# EAGLE library part FAN5404_ (library Chips)
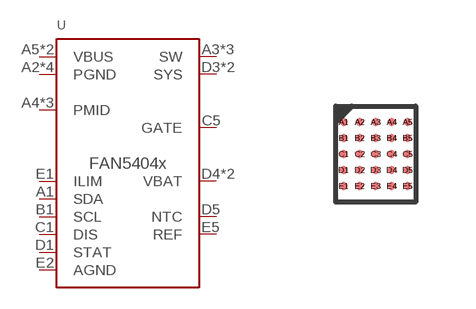
[diagram p22: symbol with the pads of BGA_5X5_0.4MM; footprint BGA_5X5_0.4MM]

Designator prefix -

## FAN5404_BGA  [BGA_5X5_0.4MM]
A1  SDA
A2  PGND
A3  SW
A4  PMID
A5  VBUS
B1  SCL
B2  PGND
B3  SW
B4  PMID
B5  VBUS
C1  DIS
C2  PGND
C3  SW
C4  PMID
C5  GATE
D1  STAT
D2  PGND
D3  SYS
D4  VBAT
D5  NTC
E1  ILIM
E2  AGND
E3  SYS
E4  VBAT
E5  REF

## Footprint BGA_5X5_0.4MM (pad centres in mm)
smd 0.2 x 0.2: A1 -0.8,0.8; A2 -0.4,0.8; A3 0,0.8; A4 0.4,0.8; A5 0.8,0.8; B1 -0.8,0.4; B2 -0.4,0.4; B3 0,0.4; B4 0.4,0.4; B5 0.8,0.4; C1 -0.8,0; C2 -0.4,0; C3 0,0; C4 0.4,0; C5 0.8,0; D1 -0.8,-0.4; D2 -0.4,-0.4; D3 0,-0.4; D4 0.4,-0.4; D5 0.8,-0.4; E1 -0.8,-0.8; E2 -0.4,-0.8; E3 0,-0.8; E4 0.4,-0.8; E5 0.8,-0.8